# Altium footprint library ricoh-packages.PcbLib: 1 footprints
Each footprint in its own frame and in the unit in brackets; x right, y up, seen from the top. Pads: shape width x height; smd on the part's side, far side on the other; paste and mask are expansions set on the pad; w line width, h text height; cw(c..) or ccw(c..) is an arc to the next point about the centre after c.
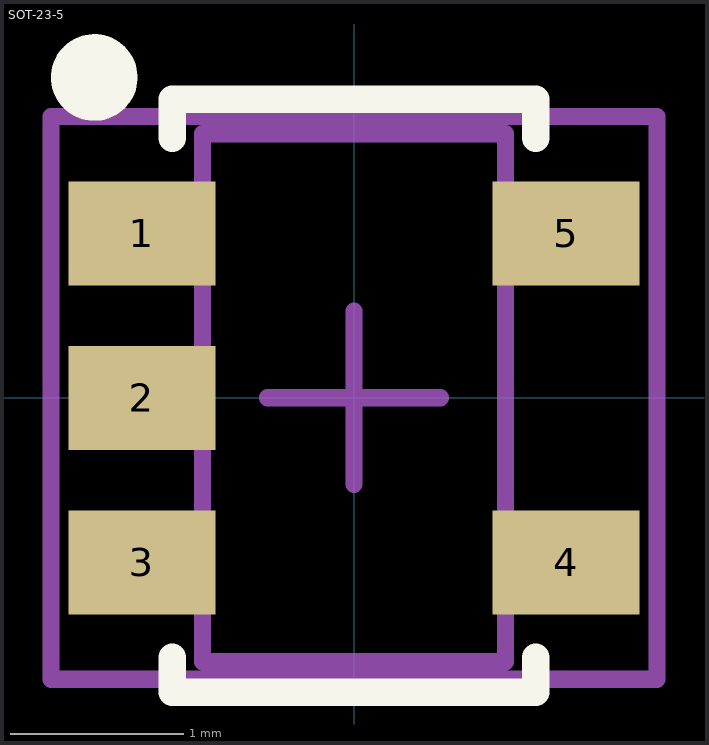
[diagram p0: the footprint, top view; thin cyan lines are the x and y axes]

## SOT-23-5 [mm] "SOT23, 5-Leads, Body 3.0x3.0mm (max), Pitch 0.95mm, IPC High Density"
height 1.1
pads (5):
  rect 0.85x0.6 smd: 1(-1.225,0.95) 2(-1.225,0) 3(-1.225,-0.95) 4(1.225,-0.95) 5(1.225,0.95)
Top Overlay:
  circle w0.25: c-1.5,1.85 r0.125
  lines w0.16: -1.05,-1.5 -1.05,-1.7 1.05,-1.7 1.05,-1.5 ; -1.05,1.5 -1.05,1.725 0.8,1.725 1.05,1.725 1.05,1.5
Mechanical 13:
  lines w0.1: -0.5,0 0.5,0 ; 0,-0.5 0,0.5 ; -0.875,-1.525 0.875,-1.525 0.875,1.525 -0.875,1.525 -0.875,-1.525
Mechanical 15:
  lines w0.1: -1.75,-1.625 1.75,-1.625 1.75,1.625 -1.75,1.625 -1.75,-1.625
  text ".Designator" at 0.225,-1.3 h0.5
3D body: height 1.09, standoff -0.01, extent -1.25,-1.5 1.25,1.5